# EAGLE library part ADC0838CCN (library adc0838)
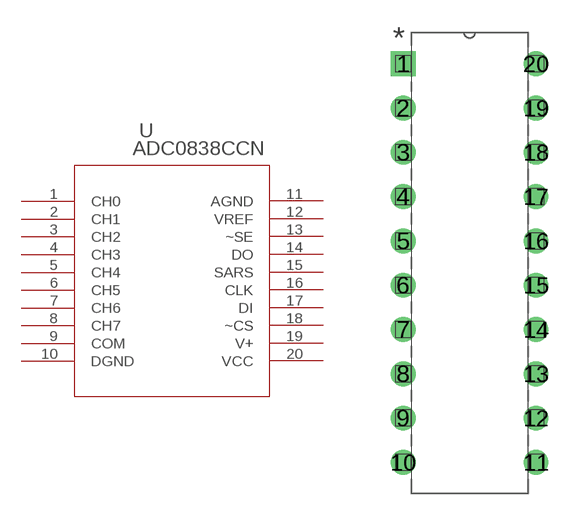
[diagram p0: symbol with the pads of N20A; footprint N20A]

Designator prefix U

## ADC0838CCN (BASE_PN: ADC0838; COMPTYPE: ADCIC; PARTNUMBER: ADC0838CCN; SYMBOL: NameADC0838CCN; TYPE: ADC0838CCN; VENDOR: NationalSemiconductor; VERSION: 5/2/2007)  [N20A]
1  CH0  in
2  CH1  in
3  CH2  in
4  CH3  in
5  CH4  in
6  CH5  in
7  CH6  in
8  CH7  in
9  COM  pas
10  DGND  pas
11  AGND  pas
12  VREF  pas
13  ~SE  pas
14  DO  out
15  SARS  pas
16  CLK  pas
17  DI  in
18  ~CS  pas
19  V+  pas
20  VCC  pas

## Footprint N20A (pad centres in mm)
drill 0.914 square: 1 -7.62,22.86
drill 0.914: 2 -7.62,20.32; 3 -7.62,17.78; 4 -7.62,15.24; 5 -7.62,12.7; 6 -7.62,10.16; 7 -7.62,7.62; 8 -7.62,5.08; 9 -7.62,2.54; 10 -7.62,0; 11 0,0; 12 0,2.54; 13 0,5.08; 14 0,7.62; 15 0,10.16; 16 0,12.7; 17 0,15.24; 18 0,17.78; 19 0,20.32; 20 0,22.86